# EAGLE library part IM6100 (library dec-con)
IM6100 PDP-8 on a chip.
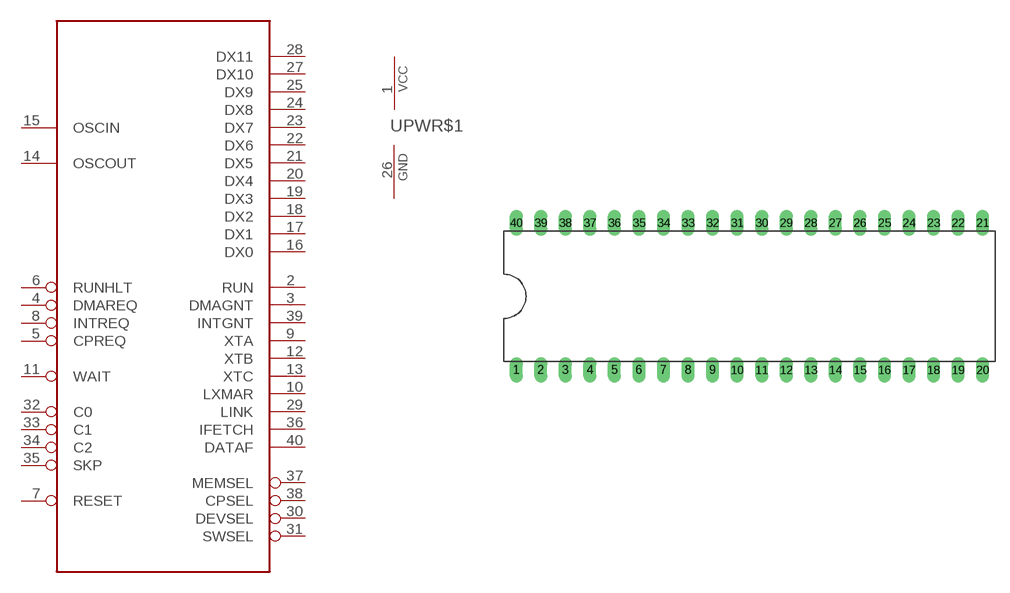
[diagram p33: symbol with the pads of DIL40; footprint DIL40]

Designator prefix -; gates CPU$1=IM6100 PWR$1=PWRN

## IM6100  [DIL40]
1  PWR$1:VCC  pwr
2  CPU$1:RUN  out
3  CPU$1:DMAGNT  out
4  CPU$1:DMAREQ  in
5  CPU$1:CPREQ  in
6  CPU$1:RUNHLT  in
7  CPU$1:RESET  in
8  CPU$1:INTREQ  in
9  CPU$1:XTA  out
10  CPU$1:LXMAR  out
11  CPU$1:WAIT  in
12  CPU$1:XTB  out
13  CPU$1:XTC  out
14  CPU$1:OSCOUT  out
15  CPU$1:OSCIN  in
16  CPU$1:DX0
17  CPU$1:DX1
18  CPU$1:DX2
19  CPU$1:DX3
20  CPU$1:DX4
21  CPU$1:DX5
22  CPU$1:DX6
23  CPU$1:DX7
24  CPU$1:DX8
25  CPU$1:DX9
26  PWR$1:GND  pwr
27  CPU$1:DX10
28  CPU$1:DX11
29  CPU$1:LINK  out
30  CPU$1:DEVSEL  out
31  CPU$1:SWSEL  out
32  CPU$1:C0  in
33  CPU$1:C1  in
34  CPU$1:C2  in
35  CPU$1:SKP  in
36  CPU$1:IFETCH  out
37  CPU$1:MEMSEL  out
38  CPU$1:CPSEL  out
39  CPU$1:INTGNT  out
40  CPU$1:DATAF  out

## Footprint DIL40 (pad centres in mm)
40 pin wide DIP
drill 0.813 long: 1 -24.13,-7.62; 2 -21.59,-7.62; 3 -19.05,-7.62; 4 -16.51,-7.62; 5 -13.97,-7.62; 6 -11.43,-7.62; 7 -8.89,-7.62; 8 -6.35,-7.62; 9 -3.81,-7.62; 10 -1.27,-7.62; 11 1.27,-7.62; 12 3.81,-7.62; 13 6.35,-7.62; 14 8.89,-7.62; 15 11.43,-7.62; 16 13.97,-7.62; 17 16.51,-7.62; 18 19.05,-7.62; 19 21.59,-7.62; 20 24.13,-7.62; 21 24.13,7.62; 22 21.59,7.62; 23 19.05,7.62; 24 16.51,7.62; 25 13.97,7.62; 26 11.43,7.62; 27 8.89,7.62; 28 6.35,7.62; 29 3.81,7.62; 30 1.27,7.62; 31 -1.27,7.62; 32 -3.81,7.62; 33 -6.35,7.62; 34 -8.89,7.62; 35 -11.43,7.62; 36 -13.97,7.62; 37 -16.51,7.62; 38 -19.05,7.62; 39 -21.59,7.62; 40 -24.13,7.62